# Altium footprint library ASPI-4030S.PcbLib: 1 footprints
Each footprint in its own frame and in the unit in brackets; x right, y up, seen from the top. Pads: shape width x height; smd on the part's side, far side on the other; paste and mask are expansions set on the pad; w line width, h text height; cw(c..) or ccw(c..) is an arc to the next point about the centre after c.
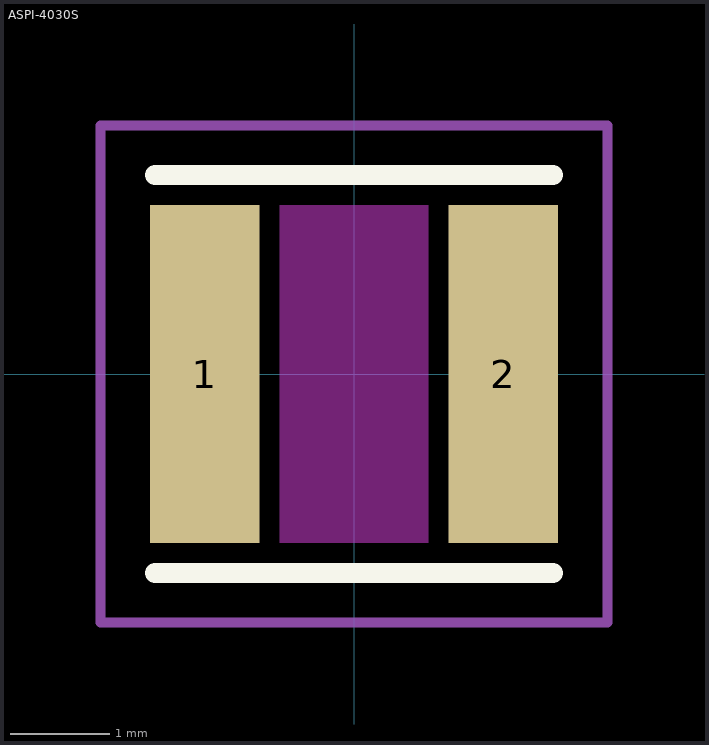
[diagram p0: the footprint, top view; thin cyan lines are the x and y axes]

## ASPI-4030S [mm]
pads (2):
  rect 1.1x3.4 smd: 1(-1.5,0) 2(1.5,0)
Top Layer keep-out:
  rectangle: -0.75,-1.7 0.75,1.7
Top Overlay:
  lines w0.2: -2,-2 2,-2 ; -2,2 2,2
Top Courtyard:
  lines w0.1: -2.55,-2.5 2.55,-2.5 2.55,2.5 -2.55,2.5 -2.55,-2.5
3D body "ASPI-4030S.STEP": height 3, standoff 0, extent -2,-2 2,2